# Altium schematic symbol library OSTTE040104.SchLib: 1 symbol
Pins are listed as number, name and electrical type; pins without a type are passive.

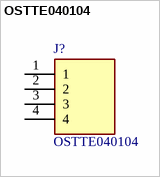
[diagram p0: symbol OSTTE040104]

## OSTTE040104
designator J?
TERM BLK 4POS SIDE ENT 3.5MM PCB; Manufacturer_Name: On Shore Technology Inc.; Geometry.Height: 8.7mm; Manufacturer_Part_Number: OSTTE040104; Mouser Part Number: *; Mouser Price/Stock: *; Arrow Part Number: OSTTE040104; Arrow Price/Stock: https://www.arrow.com/en/products/ostte040104/on-shore-technology?utm_currency=USD&region=nac; Datasheet Link: https://www.on-shore.com/wp-content/uploads/OSTTEXX0104.pdf
footprint OSTTE040104
pins: 1, 2, 3, 4